# EAGLE library part L9110 (library FaBo-Motor)
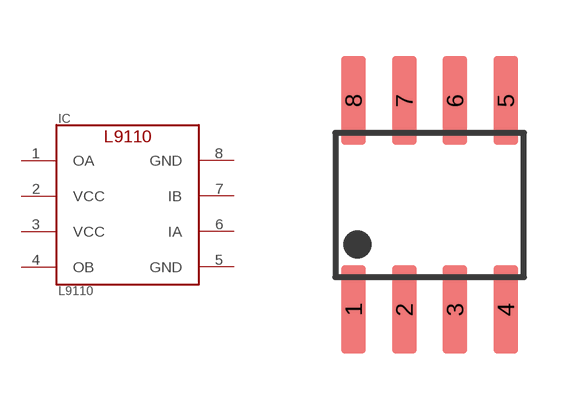
[diagram p4: symbol with the pads of SO8P; footprint SO8P]

Designator prefix IC

## L9110  [SO8P]
1  OA
2  VCC
3  VCC
4  OB
5  GND
6  IA
7  IB
8  GND

## Footprint SO8P (pad centres in mm)
smd 0.61 x 2.21: 1 -1.905,-2.616; 2 -0.635,-2.616; 3 0.635,-2.616; 4 1.905,-2.616; 5 1.905,2.616; 6 0.635,2.616; 7 -0.635,2.616; 8 -1.905,2.616